# Altium schematic symbol library Device.SchLib: 533 symbols (part 2 of 4)
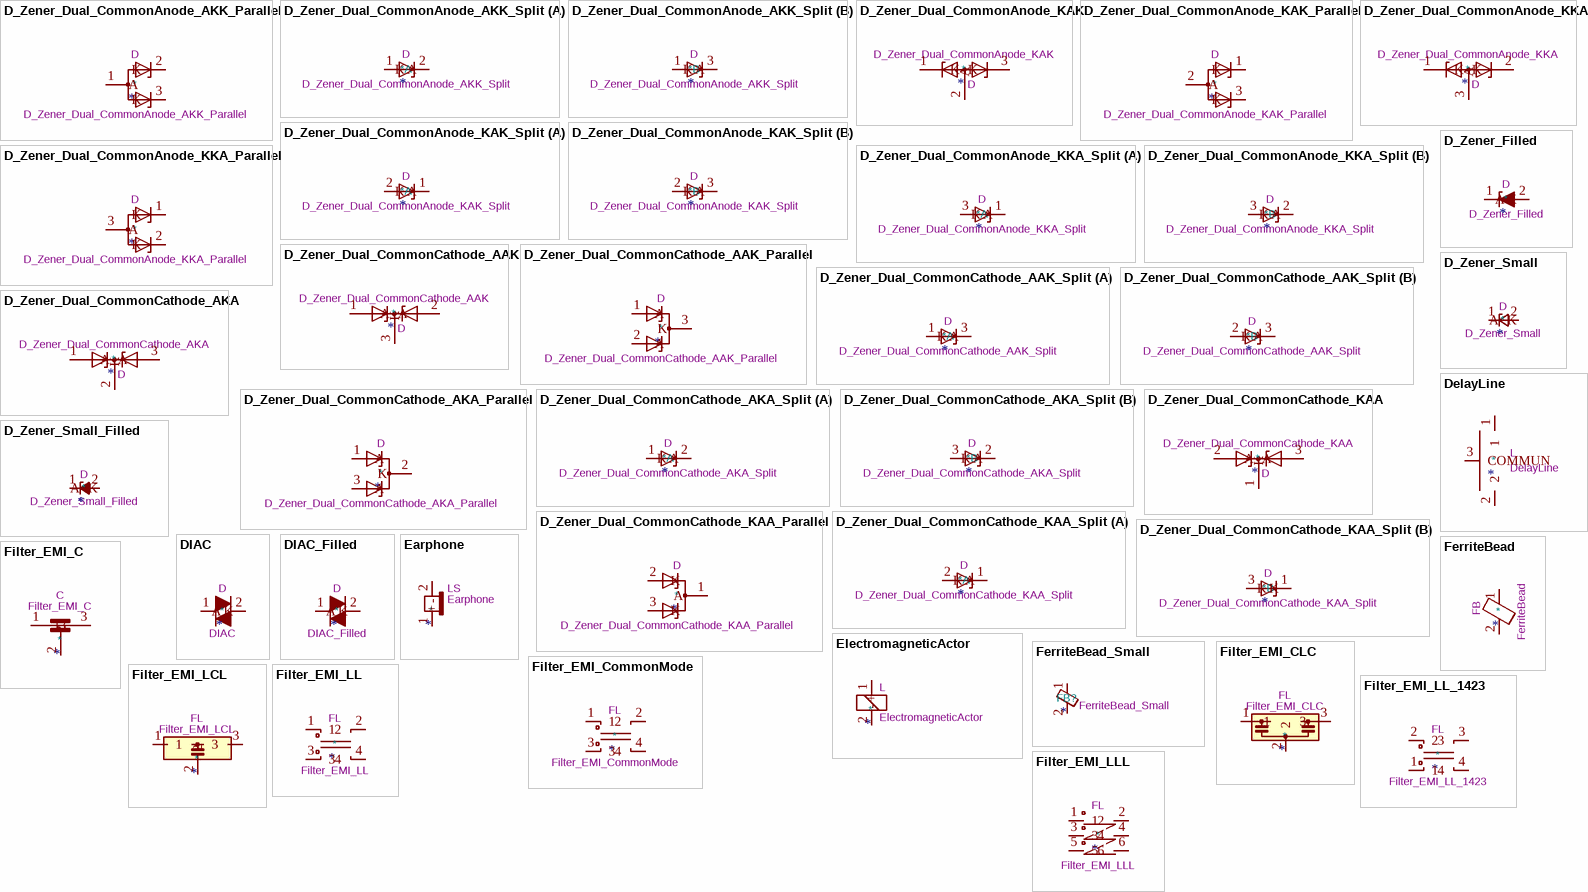
[diagram p19: symbols D_Zener_Dual_CommonAnode_AKK_Parallel to Filter_EMI_LLL]

## D_Zener_Dual_CommonCathode_KAA_Parallel
designator *  value D_Zener_Dual_CommonCathode_KAA_Parallel  Reference: D
Dual Zener diode, common anode on pin 1; Datasheet: ~; Description_: Dual Zener diode, common anode on pin 1; ki_keywords: diode
pins: 1 A, 2 K, 3 K

## D_Zener_Dual_CommonCathode_KAA_Split
designator *  value D_Zener_Dual_CommonCathode_KAA_Split  Reference: D
Dual Zener diode, common anode on pin 1; Datasheet: ~; Description_: Dual Zener diode, common anode on pin 1; ki_keywords: diode
part A pins: 1 K, 2 A
part B pins: 1 K, 3 K

## D_Zener_Filled
designator *  value D_Zener_Filled  Reference: D
Zener diode, filled shape; ki_fp_filters: TO-???* *_Diode_* *SingleDiode* D_*; Datasheet: ~; Description_: Zener diode, filled shape; ki_keywords: diode
pins: 1 K, 2 A

## D_Zener_Small
designator *  value D_Zener_Small  Reference: D
Zener diode, small symbol; ki_fp_filters: TO-???* *_Diode_* *SingleDiode* D_*; Datasheet: ~; Description_: Zener diode, small symbol; ki_keywords: diode
pins: 1 K, 2 A

## D_Zener_Small_Filled
designator *  value D_Zener_Small_Filled  Reference: D
Zener diode, small symbol, filled shape; ki_fp_filters: TO-???* *_Diode_* *SingleDiode* D_*; Datasheet: ~; Description_: Zener diode, small symbol, filled shape; ki_keywords: diode
pins: 1 K, 2 A

## DelayLine
designator *  value DelayLine  Reference: L
Delay line; ki_keywords: delay propagation retard impedance; Datasheet: ~; Description_: Delay line
pins: 1, 2, 3 COMMUN

## DIAC
designator *  value DIAC  Reference: D
Diode for alternating current; ki_keywords: AC diode DIAC; ki_fp_filters: TO-???* *_Diode_* *SingleDiode* D_*; Datasheet: ~; Description_: Diode for alternating current
pins: 1 K, 2 A

## DIAC_Filled
designator *  value DIAC_Filled  Reference: D
Diode for alternating current, filled shape; ki_keywords: AC diode DIAC; ki_fp_filters: TO-???* *_Diode_* *SingleDiode* D_*; Datasheet: ~; Description_: Diode for alternating current, filled shape
pins: 1 K, 2 A

## Earphone
designator *  value Earphone  Reference: LS
Earphone, polarized; ki_keywords: earphone speaker headphone; Datasheet: ~; Description_: Earphone, polarized
pins: 1 -, 2 +

## ElectromagneticActor
designator *  value ElectromagneticActor  Reference: L
Electromagnetic actor; ki_keywords: electromagnet coil inductor; ki_fp_filters: Inductor_* L_*; Datasheet: ~; Description_: Electromagnetic actor
pins: 1 -, 2 +

## FerriteBead
designator *  value FerriteBead  Reference: FB
Ferrite bead; ki_keywords: L ferrite bead inductor filter; ki_fp_filters: Inductor_* L_* *Ferrite*; Datasheet: ~; Description_: Ferrite bead
pins: 1, 2

## FerriteBead_Small
designator FB?  value FerriteBead_Small
Ferrite bead, small symbol; ki_keywords: L ferrite bead inductor filter; ki_fp_filters: Inductor_* L_* *Ferrite*; Reference: FB; Datasheet: ~; Description_: Ferrite bead, small symbol
footprint L_0201_0603Metric
footprint L_0402_1005Metric
footprint L_0603_1608Metric
footprint L_0805_2012Metric
pins: 1, 2

## Filter_EMI_C
designator *  value Filter_EMI_C  Reference: C
EMI filter, single capacitor; ki_keywords: EMI filter feedthrough capacitor; Datasheet: http://www.murata.com/~/media/webrenewal/support/library/catalog/products/emc/emifil/c31e.ashx?la=en-gb; Description_: EMI filter, single capacitor
pins: 1, 2, 3

## Filter_EMI_CLC
designator *  value Filter_EMI_CLC  Reference: FL
EMI T-filter (CLC); ki_fp_filters: Filter* Resonator*; Datasheet: http://www.murata.com/~/media/webrenewal/support/library/catalog/products/emc/emifil/c31e.ashx?la=en-gb; Description_: EMI T-filter (CLC); ki_keywords: EMI T-filter
pins: 1, 2, 3

## Filter_EMI_CommonMode
designator *  value Filter_EMI_CommonMode  Reference: FL
EMI 2-inductor common mode filter; ki_keywords: EMI common mode filter; ki_fp_filters: L_* L_CommonMode*; Datasheet: ~; Description_: EMI 2-inductor common mode filter
pins: 1, 2, 3, 4

## Filter_EMI_LCL
designator *  value Filter_EMI_LCL  Reference: FL
EMI T-filter (LCL); ki_fp_filters: Filter* Resonator*; Datasheet: http://www.murata.com/~/media/webrenewal/support/library/catalog/products/emc/emifil/c31e.ashx?la=en-gb; Description_: EMI T-filter (LCL); ki_keywords: EMI T-filter
pins: 1, 2, 3

## Filter_EMI_LL
designator *  value Filter_EMI_LL  Reference: FL
EMI 2-inductor filter; ki_keywords: EMI filter; ki_fp_filters: L_* L_CommonMode*; Datasheet: ~; Description_: EMI 2-inductor filter
pins: 1, 2, 3, 4

## Filter_EMI_LL_1423
designator *  value Filter_EMI_LL_1423  Reference: FL
EMI 2-inductor filter, pin-connections 1-4 and 2-3; ki_keywords: EMI filter common-mode choke; ki_fp_filters: Bourns*SRF0905*; Datasheet: ~; Description_: EMI 2-inductor filter, pin-connections 1-4 and 2-3
pins: 1, 2, 3, 4

## Filter_EMI_LLL
designator *  value Filter_EMI_LLL  Reference: FL
EMI 3-inductor filter; ki_keywords: three phase common mode choke; ki_fp_filters: L* L_CommonMode*; Datasheet: ~; Description_: EMI 3-inductor filter
pins: 1, 2, 3, 4, 5, 6

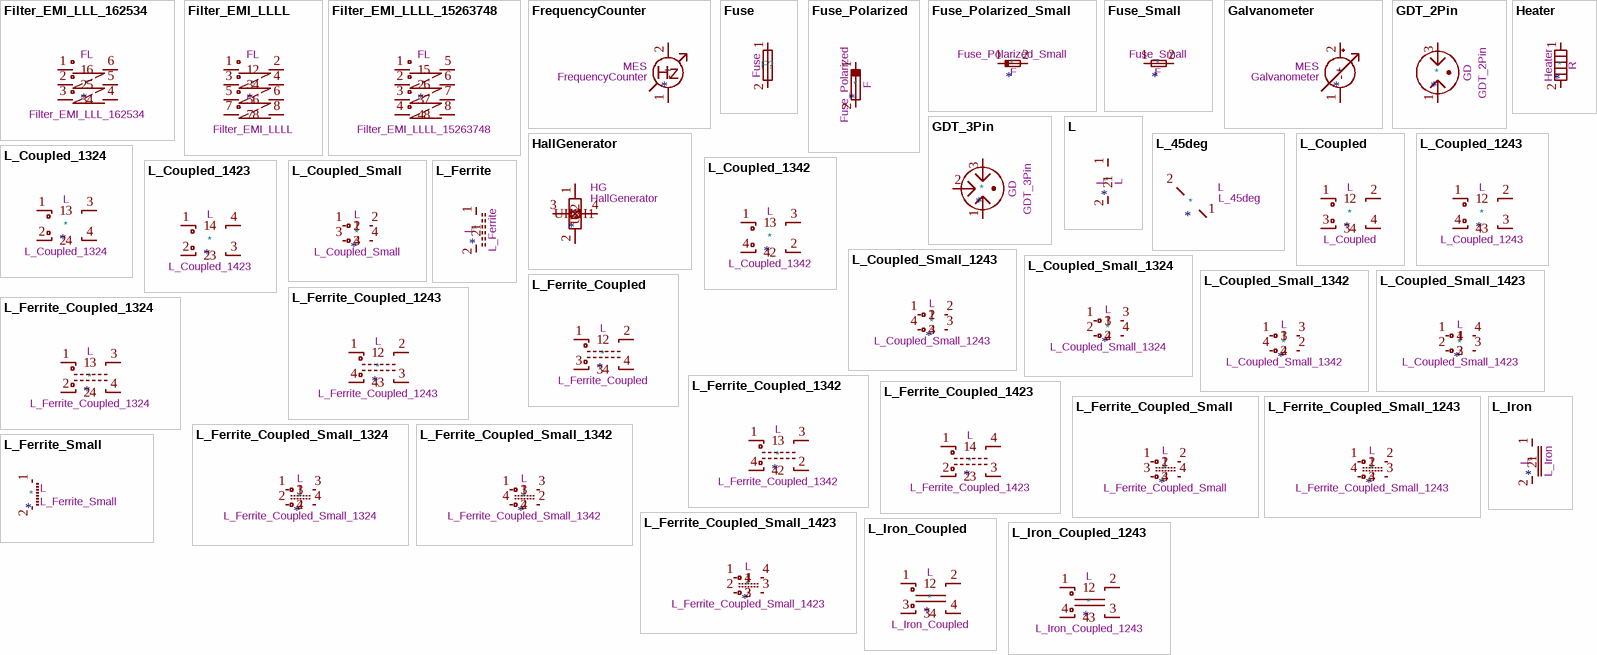
[diagram p6: symbols Filter_EMI_LLL_162534 to L_Iron_Coupled_1243]

## Filter_EMI_LLL_162534
designator *  value Filter_EMI_LLL_162534  Reference: FL
EMI 3-inductor filter; ki_keywords: three phase common mode choke; ki_fp_filters: L* L_CommonMode*; Datasheet: ~; Description_: EMI 3-inductor filter
pins: 1, 2, 3, 4, 5, 6

## Filter_EMI_LLLL
designator *  value Filter_EMI_LLLL  Reference: FL
EMI 4-inductor filter; ki_keywords: common mode quadruple choke quad coil; ki_fp_filters: L* L_CommonMode*; Datasheet: ~; Description_: EMI 4-inductor filter
pins: 1, 2, 3, 4, 5, 6, 7, 8

## Filter_EMI_LLLL_15263748
designator *  value Filter_EMI_LLLL_15263748  Reference: FL
EMI 4-inductor filter; ki_keywords: common mode quadruple choke quad coil; ki_fp_filters: L* L_CommonMode*; Datasheet: ~; Description_: EMI 4-inductor filter
pins: 1, 2, 3, 4, 5, 6, 7, 8

## FrequencyCounter
designator *  value FrequencyCounter  Reference: MES
Frequency counter; Datasheet: ~; Description_: Frequency counter; ki_keywords: frequency counter
pins: 1 -, 2 +
text: Hz

## Fuse
designator F?  value Fuse  (hidden comment: *)
Fuse; ki_fp_filters: *Fuse*; Reference: F; Datasheet: ~; Description_: Fuse; ki_keywords: fuse
footprint Fuse_2512_6332Metric
pins: 1, 2

## Fuse_Polarized
designator *  value Fuse_Polarized  Reference: F
Polarized fuse; ki_fp_filters: *Fuse*; Datasheet: ~; Description_: Polarized fuse; ki_keywords: fuse
pins: 1, 2

## Fuse_Polarized_Small
designator *  value Fuse_Polarized_Small  Reference: F
Polarized fuse, small symbol; ki_fp_filters: *Fuse*; Datasheet: ~; Description_: Polarized fuse, small symbol; ki_keywords: fuse
pins: 1, 2

## Fuse_Small
designator *  value Fuse_Small  Reference: F
Fuse, small symbol; ki_fp_filters: *Fuse*; Datasheet: ~; Description_: Fuse, small symbol; ki_keywords: fuse
pins: 1, 2

## Galvanometer
designator *  value Galvanometer  Reference: MES
Galvanometer; Datasheet: ~; Description_: Galvanometer; ki_keywords: galvanometer
pins: 1 -, 2 +

## GDT_2Pin
designator *  value GDT_2Pin  Reference: GD
Gas Discharge Tube with 2 Pins; ki_keywords: gdt; Datasheet: ~; Description_: Gas Discharge Tube with 2 Pins
pins: 1, 3

## GDT_3Pin
designator *  value GDT_3Pin  Reference: GD
Gas Discharge Tube with 3 Pins; ki_keywords: gdt; Datasheet: ~; Description_: Gas Discharge Tube with 3 Pins
pins: 1, 2, 3

## HallGenerator
designator *  value HallGenerator  Reference: HG
Hall effect generator; ki_keywords: Hall generator magnet; Datasheet: ~; Description_: Hall effect generator
pins: 1 U1, 2 U2, 3 UH1, 4 UH2

## Heater
designator *  value Heater  Reference: R
Resistive heater; ki_keywords: heater R resistor; Datasheet: ~; Description_: Resistive heater
pins: 1, 2

## L
designator *  value L
Inductor; ki_keywords: inductor choke coil reactor magnetic; ki_fp_filters: Choke_* *Coil* Inductor_* L_*; Reference: L; Datasheet: ~; Description_: Inductor
pins: 1, 2

## L_45deg
designator *  value L_45deg  Reference: L
Inductor, rotated by 45°; ki_keywords: inductor choke coil reactor magnetic inductor; ki_fp_filters: L_* Choke_* Inductor_* *Coil*; Datasheet: ~; Description_: Inductor, rotated by 45°
pins: 1, 2

## L_Coupled
designator *  value L_Coupled  Reference: L
Coupled inductor; ki_keywords: inductor choke coil reactor magnetic coupled; ki_fp_filters: Choke_* *Coil* Inductor_* L_*; Datasheet: ~; Description_: Coupled inductor
pins: 1, 2, 3, 4

## L_Coupled_1243
designator *  value L_Coupled_1243  Reference: L
Coupled inductor; ki_keywords: inductor choke coil reactor magnetic coupled; ki_fp_filters: Choke_* *Coil* Inductor_* L_*; Datasheet: ~; Description_: Coupled inductor
pins: 1, 2, 3, 4

## L_Coupled_1324
designator *  value L_Coupled_1324  Reference: L
Coupled inductor; ki_keywords: inductor choke coil reactor magnetic coupled; ki_fp_filters: Choke_* *Coil* Inductor_* L_*; Datasheet: ~; Description_: Coupled inductor
pins: 1, 2, 3, 4

## L_Coupled_1342
designator *  value L_Coupled_1342  Reference: L
Coupled inductor; ki_keywords: inductor choke coil reactor magnetic coupled; ki_fp_filters: Choke_* *Coil* Inductor_* L_*; Datasheet: ~; Description_: Coupled inductor
pins: 1, 2, 3, 4

## L_Coupled_1423
designator *  value L_Coupled_1423  Reference: L
Coupled inductor; ki_keywords: inductor choke coil reactor magnetic coupled; ki_fp_filters: Choke_* *Coil* Inductor_* L_*; Datasheet: ~; Description_: Coupled inductor
pins: 1, 2, 3, 4

## L_Coupled_Small
designator *  value L_Coupled_Small  Reference: L
Coupled inductor, small symbol; ki_keywords: inductor choke coil reactor magnetic coupled; ki_fp_filters: Choke_* *Coil* Inductor_* L_*; Datasheet: ~; Description_: Coupled inductor, small symbol
pins: 1, 2, 3, 4

## L_Coupled_Small_1243
designator *  value L_Coupled_Small_1243  Reference: L
Coupled inductor, small symbol; ki_keywords: inductor choke coil reactor magnetic coupled; ki_fp_filters: Choke_* *Coil* Inductor_* L_*; Datasheet: ~; Description_: Coupled inductor, small symbol
pins: 1, 2, 3, 4

## L_Coupled_Small_1324
designator *  value L_Coupled_Small_1324  Reference: L
Coupled inductor, small symbol; ki_keywords: inductor choke coil reactor magnetic coupled; ki_fp_filters: Choke_* *Coil* Inductor_* L_*; Datasheet: ~; Description_: Coupled inductor, small symbol
pins: 1, 2, 3, 4

## L_Coupled_Small_1342
designator *  value L_Coupled_Small_1342  Reference: L
Coupled inductor, small symbol; ki_keywords: inductor choke coil reactor magnetic coupled; ki_fp_filters: Choke_* *Coil* Inductor_* L_*; Datasheet: ~; Description_: Coupled inductor, small symbol
pins: 1, 2, 3, 4

## L_Coupled_Small_1423
designator *  value L_Coupled_Small_1423  Reference: L
Coupled inductor, small symbol; ki_keywords: inductor choke coil reactor magnetic coupled; ki_fp_filters: Choke_* *Coil* Inductor_* L_*; Datasheet: ~; Description_: Coupled inductor, small symbol
pins: 1, 2, 3, 4

## L_Ferrite
designator *  value L_Ferrite  Reference: L
Inductor with ferrite core; ki_keywords: inductor choke coil reactor magnetic; ki_fp_filters: Choke_* *Coil* Inductor_* L_*; Datasheet: ~; Description_: Inductor with ferrite core
pins: 1, 2

## L_Ferrite_Coupled
designator *  value L_Ferrite_Coupled  Reference: L
Coupled inductor with ferrite core; ki_keywords: inductor choke coil reactor magnetic coupled; ki_fp_filters: Choke_* *Coil* Inductor_* L_*; Datasheet: ~; Description_: Coupled inductor with ferrite core
pins: 1, 2, 3, 4

## L_Ferrite_Coupled_1243
designator *  value L_Ferrite_Coupled_1243  Reference: L
Coupled inductor with ferrite core; ki_keywords: inductor choke coil reactor magnetic coupled; ki_fp_filters: Choke_* *Coil* Inductor_* L_*; Datasheet: ~; Description_: Coupled inductor with ferrite core
pins: 1, 2, 3, 4

## L_Ferrite_Coupled_1324
designator *  value L_Ferrite_Coupled_1324  Reference: L
Coupled inductor with ferrite core; ki_keywords: inductor choke coil reactor magnetic coupled; ki_fp_filters: Choke_* *Coil* Inductor_* L_*; Datasheet: ~; Description_: Coupled inductor with ferrite core
pins: 1, 2, 3, 4

## L_Ferrite_Coupled_1342
designator *  value L_Ferrite_Coupled_1342  Reference: L
Coupled inductor with ferrite core; ki_keywords: inductor choke coil reactor magnetic coupled; ki_fp_filters: Choke_* *Coil* Inductor_* L_*; Datasheet: ~; Description_: Coupled inductor with ferrite core
pins: 1, 2, 3, 4

## L_Ferrite_Coupled_1423
designator *  value L_Ferrite_Coupled_1423  Reference: L
Coupled inductor with ferrite core; ki_keywords: inductor choke coil reactor magnetic coupled; ki_fp_filters: Choke_* *Coil* Inductor_* L_*; Datasheet: ~; Description_: Coupled inductor with ferrite core
pins: 1, 2, 3, 4

## L_Ferrite_Coupled_Small
designator *  value L_Ferrite_Coupled_Small  Reference: L
Coupled inductor with ferrite core, small symbol; ki_keywords: inductor choke coil reactor magnetic coupled; ki_fp_filters: Choke_* *Coil* Inductor_* L_*; Datasheet: ~; Description_: Coupled inductor with ferrite core, small symbol
pins: 1, 2, 3, 4

## L_Ferrite_Coupled_Small_1243
designator *  value L_Ferrite_Coupled_Small_1243  Reference: L
Coupled inductor with ferrite core, small symbol; ki_keywords: inductor choke coil reactor magnetic coupled; ki_fp_filters: Choke_* *Coil* Inductor_* L_*; Datasheet: ~; Description_: Coupled inductor with ferrite core, small symbol
pins: 1, 2, 3, 4

## L_Ferrite_Coupled_Small_1324
designator *  value L_Ferrite_Coupled_Small_1324  Reference: L
Coupled inductor with ferrite core, small symbol; ki_keywords: inductor choke coil reactor magnetic coupled; ki_fp_filters: Choke_* *Coil* Inductor_* L_*; Datasheet: ~; Description_: Coupled inductor with ferrite core, small symbol
pins: 1, 2, 3, 4

## L_Ferrite_Coupled_Small_1342
designator *  value L_Ferrite_Coupled_Small_1342  Reference: L
Coupled inductor with ferrite core, small symbol; ki_keywords: inductor choke coil reactor magnetic coupled; ki_fp_filters: Choke_* *Coil* Inductor_* L_*; Datasheet: ~; Description_: Coupled inductor with ferrite core, small symbol
pins: 1, 2, 3, 4

## L_Ferrite_Coupled_Small_1423
designator *  value L_Ferrite_Coupled_Small_1423  Reference: L
Coupled inductor with ferrite core, small symbol; ki_keywords: inductor choke coil reactor magnetic coupled; ki_fp_filters: Choke_* *Coil* Inductor_* L_*; Datasheet: ~; Description_: Coupled inductor with ferrite core, small symbol
pins: 1, 2, 3, 4

## L_Ferrite_Small
designator *  value L_Ferrite_Small  Reference: L
Inductor with ferrite core, small symbol; ki_keywords: inductor choke coil reactor magnetic; ki_fp_filters: Choke_* *Coil* Inductor_* L_*; Datasheet: ~; Description_: Inductor with ferrite core, small symbol
pins: 1, 2

## L_Iron
designator *  value L_Iron  Reference: L
Inductor with iron core; ki_keywords: inductor choke coil reactor magnetic; ki_fp_filters: Choke_* *Coil* Inductor_* L_*; Datasheet: ~; Description_: Inductor with iron core
pins: 1, 2

## L_Iron_Coupled
designator *  value L_Iron_Coupled  Reference: L
Coupled inductor with iron core; ki_keywords: inductor choke coil reactor magnetic coupled; ki_fp_filters: Choke_* *Coil* Inductor_* L_*; Datasheet: ~; Description_: Coupled inductor with iron core
pins: 1, 2, 3, 4

## L_Iron_Coupled_1243
designator *  value L_Iron_Coupled_1243  Reference: L
Coupled inductor with iron core; ki_keywords: inductor choke coil reactor magnetic coupled; ki_fp_filters: Choke_* *Coil* Inductor_* L_*; Datasheet: ~; Description_: Coupled inductor with iron core
pins: 1, 2, 3, 4

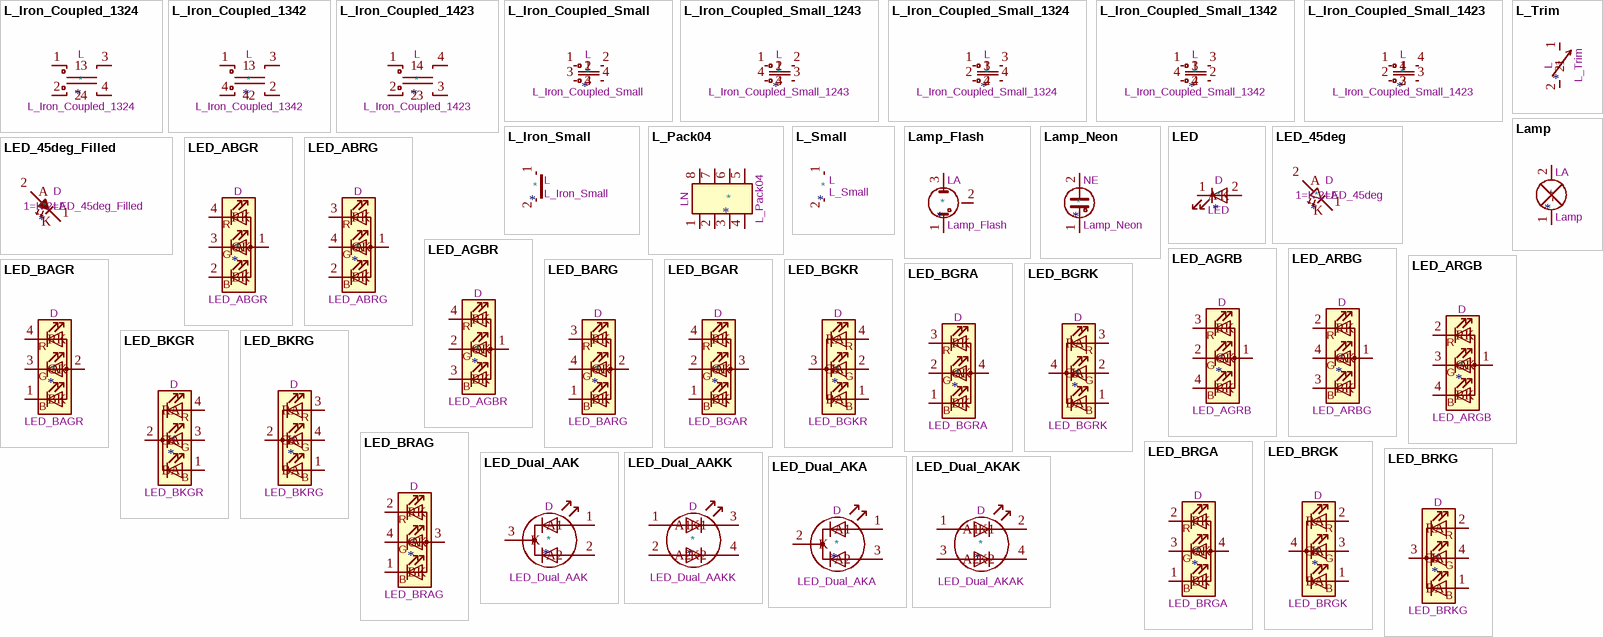
[diagram p7: symbols L_Iron_Coupled_1324 to LED_Dual_AKAK]

## L_Iron_Coupled_1324
designator *  value L_Iron_Coupled_1324  Reference: L
Coupled inductor with iron core; ki_keywords: inductor choke coil reactor magnetic coupled; ki_fp_filters: Choke_* *Coil* Inductor_* L_*; Datasheet: ~; Description_: Coupled inductor with iron core
pins: 1, 2, 3, 4

## L_Iron_Coupled_1342
designator *  value L_Iron_Coupled_1342  Reference: L
Coupled inductor with iron core; ki_keywords: inductor choke coil reactor magnetic coupled; ki_fp_filters: Choke_* *Coil* Inductor_* L_*; Datasheet: ~; Description_: Coupled inductor with iron core
pins: 1, 2, 3, 4

## L_Iron_Coupled_1423
designator *  value L_Iron_Coupled_1423  Reference: L
Coupled inductor with iron core; ki_keywords: inductor choke coil reactor magnetic coupled; ki_fp_filters: Choke_* *Coil* Inductor_* L_*; Datasheet: ~; Description_: Coupled inductor with iron core
pins: 1, 2, 3, 4

## L_Iron_Coupled_Small
designator *  value L_Iron_Coupled_Small  Reference: L
Coupled inductor with iron core, small symbol; ki_keywords: inductor choke coil reactor magnetic coupled; ki_fp_filters: Choke_* *Coil* Inductor_* L_*; Datasheet: ~; Description_: Coupled inductor with iron core, small symbol
pins: 1, 2, 3, 4

## L_Iron_Coupled_Small_1243
designator *  value L_Iron_Coupled_Small_1243  Reference: L
Coupled inductor with iron core, small symbol; ki_keywords: inductor choke coil reactor magnetic coupled; ki_fp_filters: Choke_* *Coil* Inductor_* L_*; Datasheet: ~; Description_: Coupled inductor with iron core, small symbol
pins: 1, 2, 3, 4

## L_Iron_Coupled_Small_1324
designator *  value L_Iron_Coupled_Small_1324  Reference: L
Coupled inductor with iron core, small symbol; ki_keywords: inductor choke coil reactor magnetic coupled; ki_fp_filters: Choke_* *Coil* Inductor_* L_*; Datasheet: ~; Description_: Coupled inductor with iron core, small symbol
pins: 1, 2, 3, 4

## L_Iron_Coupled_Small_1342
designator *  value L_Iron_Coupled_Small_1342  Reference: L
Coupled inductor with iron core, small symbol; ki_keywords: inductor choke coil reactor magnetic coupled; ki_fp_filters: Choke_* *Coil* Inductor_* L_*; Datasheet: ~; Description_: Coupled inductor with iron core, small symbol
pins: 1, 2, 3, 4

## L_Iron_Coupled_Small_1423
designator *  value L_Iron_Coupled_Small_1423  Reference: L
Coupled inductor with iron core, small symbol; ki_keywords: inductor choke coil reactor magnetic coupled; ki_fp_filters: Choke_* *Coil* Inductor_* L_*; Datasheet: ~; Description_: Coupled inductor with iron core, small symbol
pins: 1, 2, 3, 4

## L_Iron_Small
designator *  value L_Iron_Small  Reference: L
Inductor with iron core, small symbol; ki_keywords: inductor choke coil reactor magnetic; ki_fp_filters: Choke_* *Coil* Inductor_* L_*; Datasheet: ~; Description_: Inductor with iron core, small symbol
pins: 1, 2

## L_Pack04
designator *  value L_Pack04  Reference: LN
4 inductor network, parallel topology; ki_keywords: L network parallel topology; Datasheet: ~; Description_: 4 inductor network, parallel topology
pins: 1, 2, 3, 4, 5, 6, 7, 8

## L_Small
designator *  value L_Small  Reference: L
Inductor, small symbol; ki_keywords: inductor choke coil reactor magnetic; ki_fp_filters: Choke_* *Coil* Inductor_* L_*; Datasheet: ~; Description_: Inductor, small symbol
pins: 1, 2

## L_Trim
designator *  value L_Trim  Reference: L
Variable inductor; ki_keywords: inductor choke coil reactor magnetic; ki_fp_filters: Inductor_* L_*; Datasheet: ~; Description_: Variable inductor
pins: 1, 2

## Lamp
designator *  value Lamp  Reference: LA
Lamp; Datasheet: ~; Description_: Lamp; ki_keywords: lamp
pins: 1 -, 2 +

## Lamp_Flash
designator *  value Lamp_Flash  Reference: LA
Flash lamp tube; Datasheet: ~; Description_: Flash lamp tube; ki_keywords: flash lamp
pins: 1, 2, 3

## Lamp_Neon
designator *  value Lamp_Neon  Reference: NE
Neon lamp; Datasheet: ~; Description_: Neon lamp; ki_keywords: neon lamp
pins: 1, 2

## LED
designator *  value LED  Reference: D
Light emitting diode; Sim.Pins: 1=K 2=A; ki_keywords: LED diode; ki_fp_filters: LED* LED_SMD:* LED_THT:*; Datasheet: ~; Description_: Light emitting diode
pins: 1 K, 2 A

## LED_45deg
designator *  value LED_45deg  Reference: D  Sim.Pins: 1=K 2=A
Light emitting diode, rotated by 45°; ki_keywords: LED diode; ki_fp_filters: LED* LED_SMD:* LED_THT:*; Datasheet: ~; Description_: Light emitting diode, rotated by 45°
pins: 1 K, 2 A

## LED_45deg_Filled
designator *  value LED_45deg_Filled  Reference: D  Sim.Pins: 1=K 2=A
Light emitting diode, rotated by 45°; ki_keywords: LED diode; ki_fp_filters: LED* LED_SMD:* LED_THT:*; Datasheet: ~; Description_: Light emitting diode, rotated by 45°
pins: 1 K, 2 A

## LED_ABGR
designator *  value LED_ABGR  Reference: D
RGB LED, anode/blue/green/red; ki_keywords: LED RGB diode; ki_fp_filters: LED* LED_SMD:* LED_THT:*; Datasheet: ~; Description_: RGB LED, anode/blue/green/red
pins: 1 A, 2 BK, 3 GK, 4 RK
text: R; G; B

## LED_ABRG
designator *  value LED_ABRG  Reference: D
RGB LED, anode/blue/red/green; ki_keywords: LED RGB diode; ki_fp_filters: LED* LED_SMD:* LED_THT:*; Datasheet: ~; Description_: RGB LED, anode/blue/red/green
pins: 1 A, 2 BK, 3 RK, 4 GK
text: R; G; B

## LED_AGBR
designator *  value LED_AGBR  Reference: D
RGB LED, anode/green/blue/red; ki_keywords: LED RGB diode; ki_fp_filters: LED* LED_SMD:* LED_THT:*; Datasheet: ~; Description_: RGB LED, anode/green/blue/red
pins: 1 A, 2 GK, 3 BK, 4 RK
text: R; G; B

## LED_AGRB
designator *  value LED_AGRB  Reference: D
RGB LED, anode/green/red/blue; ki_keywords: LED RGB diode; ki_fp_filters: LED* LED_SMD:* LED_THT:*; Datasheet: ~; Description_: RGB LED, anode/green/red/blue
pins: 1 A, 2 GK, 3 RK, 4 BK
text: R; G; B

## LED_ARBG
designator *  value LED_ARBG  Reference: D
RGB LED, anode/red/blue/green; ki_keywords: LED RGB diode; ki_fp_filters: LED* LED_SMD:* LED_THT:*; Datasheet: ~; Description_: RGB LED, anode/red/blue/green
pins: 1 A, 2 RK, 3 BK, 4 GK
text: R; G; B

## LED_ARGB
designator *  value LED_ARGB  Reference: D
RGB LED, anode/red/green/blue; ki_keywords: LED RGB diode; ki_fp_filters: LED* LED_SMD:* LED_THT:*; Datasheet: ~; Description_: RGB LED, anode/red/green/blue
pins: 1 A, 2 RK, 3 GK, 4 BK
text: R; G; B

## LED_BAGR
designator *  value LED_BAGR  Reference: D
RGB LED, blue/anode/green/red; ki_keywords: LED RGB diode; ki_fp_filters: LED* LED_SMD:* LED_THT:*; Datasheet: ~; Description_: RGB LED, blue/anode/green/red
pins: 1 BK, 2 A, 3 GK, 4 RK
text: R; G; B

## LED_BARG
designator *  value LED_BARG  Reference: D
RGB LED, blue/anode/red/green; ki_keywords: LED RGB diode; ki_fp_filters: LED* LED_SMD:* LED_THT:*; Datasheet: ~; Description_: RGB LED, blue/anode/red/green
pins: 1 BK, 2 A, 3 RK, 4 GK
text: R; G; B

## LED_BGAR
designator *  value LED_BGAR  Reference: D
RGB LED, blue/green/anode/red; ki_keywords: LED RGB diode; ki_fp_filters: LED* LED_SMD:* LED_THT:*; Datasheet: ~; Description_: RGB LED, blue/green/anode/red
pins: 1 BK, 2 GK, 3 A, 4 RK
text: R; G; B

## LED_BGKR
designator *  value LED_BGKR  Reference: D
RGB LED, blue/green/cathode/red; ki_keywords: LED RGB diode; ki_fp_filters: LED* LED_SMD:* LED_THT:*; Datasheet: ~; Description_: RGB LED, blue/green/cathode/red
pins: 1 BA, 2 GA, 3 K, 4 RA
text: R; G; B

## LED_BGRA
designator *  value LED_BGRA  Reference: D
RGB LED, blue/green/red/anode; ki_keywords: LED RGB diode; ki_fp_filters: LED* LED_SMD:* LED_THT:*; Datasheet: ~; Description_: RGB LED, blue/green/red/anode
pins: 1 BK, 2 GK, 3 RK, 4 A
text: R; G; B

## LED_BGRK
designator *  value LED_BGRK  Reference: D
RGB LED, blue/green/red/cathode; ki_keywords: LED RGB diode; ki_fp_filters: LED* LED_SMD:* LED_THT:*; Datasheet: ~; Description_: RGB LED, blue/green/red/cathode
pins: 1 BA, 2 GA, 3 RA, 4 K
text: R; G; B

## LED_BKGR
designator *  value LED_BKGR  Reference: D
RGB LED, blue/cathode/green/red; ki_keywords: LED RGB diode; ki_fp_filters: LED* LED_SMD:* LED_THT:*; Datasheet: ~; Description_: RGB LED, blue/cathode/green/red
pins: 1 BA, 2 K, 3 GA, 4 RA
text: R; G; B

## LED_BKRG
designator *  value LED_BKRG  Reference: D
RGB LED, blue/cathode/red/green; ki_keywords: LED RGB diode; ki_fp_filters: LED* LED_SMD:* LED_THT:*; Datasheet: ~; Description_: RGB LED, blue/cathode/red/green
pins: 1 BA, 2 K, 3 RA, 4 GA
text: R; G; B

## LED_BRAG
designator *  value LED_BRAG  Reference: D
RGB LED, blue/red/anode/green; ki_keywords: LED RGB diode; ki_fp_filters: LED* LED_SMD:* LED_THT:*; Datasheet: ~; Description_: RGB LED, blue/red/anode/green
pins: 1 BK, 2 RK, 3 A, 4 GK
text: R; G; B

## LED_BRGA
designator *  value LED_BRGA  Reference: D
RGB LED, blue/red/green/anode; ki_keywords: LED RGB diode; ki_fp_filters: LED* LED_SMD:* LED_THT:*; Datasheet: ~; Description_: RGB LED, blue/red/green/anode
pins: 1 BK, 2 RK, 3 GK, 4 A
text: R; G; B

## LED_BRGK
designator *  value LED_BRGK  Reference: D
RGB LED, blue/red/green/cathode; ki_keywords: LED RGB diode; ki_fp_filters: LED* LED_SMD:* LED_THT:*; Datasheet: ~; Description_: RGB LED, blue/red/green/cathode
pins: 1 BA, 2 RA, 3 GA, 4 K
text: R; G; B

## LED_BRKG
designator *  value LED_BRKG  Reference: D
RGB LED, blue/red/cathode/green; ki_keywords: LED RGB diode; ki_fp_filters: LED* LED_SMD:* LED_THT:*; Datasheet: ~; Description_: RGB LED, blue/red/cathode/green
pins: 1 BA, 2 RA, 3 K, 4 GA
text: R; G; B

## LED_Dual_AAK
designator *  value LED_Dual_AAK  Reference: D
Dual LED, common cathode on pin 3; ki_keywords: LED diode bicolor dual; ki_fp_filters: LED* LED_SMD:* LED_THT:*; Datasheet: ~; Description_: Dual LED, common cathode on pin 3
pins: 1 A1, 2 A2, 3 K

## LED_Dual_AAKK
designator *  value LED_Dual_AAKK  Reference: D
Dual LED, cathodes on pins 3 and 4; ki_keywords: LED diode bicolor dual; ki_fp_filters: LED* LED_SMD:* LED_THT:*; Datasheet: ~; Description_: Dual LED, cathodes on pins 3 and 4
pins: 1 A1, 2 A2, 3 K1, 4 K2

## LED_Dual_AKA
designator *  value LED_Dual_AKA  Reference: D
Dual LED, common cathode on pin 2; ki_keywords: LED diode bicolor dual; ki_fp_filters: LED* LED_SMD:* LED_THT:*; Datasheet: ~; Description_: Dual LED, common cathode on pin 2
pins: 1 A1, 2 K, 3 A2

## LED_Dual_AKAK
designator *  value LED_Dual_AKAK  Reference: D
Dual LED, cathodes on pins 2 and 4; ki_keywords: LED diode bicolor dual; ki_fp_filters: LED* LED_SMD:* LED_THT:*; Datasheet: ~; Description_: Dual LED, cathodes on pins 2 and 4
pins: 1 A1, 2 K1, 3 A2, 4 K2

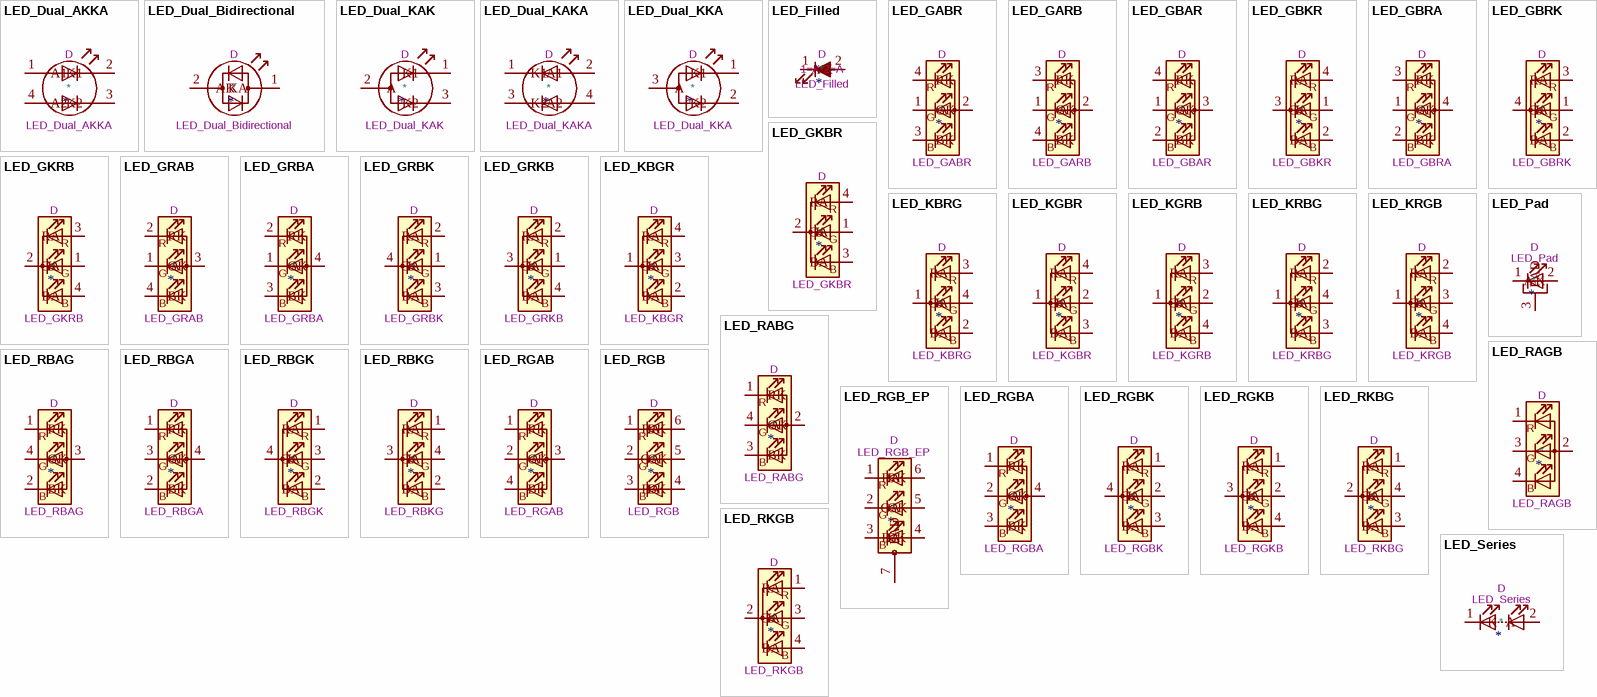
[diagram p8: symbols LED_Dual_AKKA to LED_Series]

## LED_Dual_AKKA
designator *  value LED_Dual_AKKA  Reference: D
Dual LED, cathodes on pins 2 and 3; ki_keywords: LED diode bicolor dual; ki_fp_filters: LED* LED_SMD:* LED_THT:*; Datasheet: ~; Description_: Dual LED, cathodes on pins 2 and 3
pins: 1 A1, 2 K1, 3 K2, 4 A2

## LED_Dual_Bidirectional
designator *  value LED_Dual_Bidirectional  Reference: D
Dual LED, bidirectional; ki_keywords: LED diode bicolor dual; ki_fp_filters: LED* LED_SMD:* LED_THT:*; Datasheet: ~; Description_: Dual LED, bidirectional
pins: 1 KA, 2 AK

## LED_Dual_KAK
designator *  value LED_Dual_KAK  Reference: D
Dual LED, common anode on pin 2; ki_keywords: LED diode bicolor dual; ki_fp_filters: LED* LED_SMD:* LED_THT:*; Datasheet: ~; Description_: Dual LED, common anode on pin 2
pins: 1 K1, 2 A, 3 K2

## LED_Dual_KAKA
designator *  value LED_Dual_KAKA  Reference: D
Dual LED, cathodes on pins 1 and 3; ki_keywords: LED diode bicolor dual; ki_fp_filters: LED* LED_SMD:* LED_THT:*; Datasheet: ~; Description_: Dual LED, cathodes on pins 1 and 3
pins: 1 K1, 2 A1, 3 K2, 4 A2

## LED_Dual_KKA
designator *  value LED_Dual_KKA  Reference: D
Dual LED, common anode on pin 3; ki_keywords: LED diode bicolor dual; ki_fp_filters: LED* LED_SMD:* LED_THT:*; Datasheet: ~; Description_: Dual LED, common anode on pin 3
pins: 1 K1, 2 K2, 3 A

## LED_Filled
designator *  value LED_Filled  Reference: D  Sim.Pins: 1=K 2=A
Light emitting diode, filled shape; ki_keywords: LED diode; ki_fp_filters: LED* LED_SMD:* LED_THT:*; Datasheet: ~; Description_: Light emitting diode, filled shape
pins: 1 K, 2 A

## LED_GABR
designator *  value LED_GABR  Reference: D
RGB LED, green/anode/blue/red; ki_keywords: LED RGB diode; ki_fp_filters: LED* LED_SMD:* LED_THT:*; Datasheet: ~; Description_: RGB LED, green/anode/blue/red
pins: 1 GK, 2 A, 3 BK, 4 RK
text: R; G; B

## LED_GARB
designator *  value LED_GARB  Reference: D
RGB LED, green/anode/red/blue; ki_keywords: LED RGB diode; ki_fp_filters: LED* LED_SMD:* LED_THT:*; Datasheet: ~; Description_: RGB LED, green/anode/red/blue
pins: 1 GK, 2 A, 3 RK, 4 BK
text: R; G; B

## LED_GBAR
designator *  value LED_GBAR  Reference: D
RGB LED, green/blue/anode/red; ki_keywords: LED RGB diode; ki_fp_filters: LED* LED_SMD:* LED_THT:*; Datasheet: ~; Description_: RGB LED, green/blue/anode/red
pins: 1 GK, 2 BK, 3 A, 4 RK
text: R; G; B

## LED_GBKR
designator *  value LED_GBKR  Reference: D
RGB LED, green/blue/cathode/red; ki_keywords: LED RGB diode; ki_fp_filters: LED* LED_SMD:* LED_THT:*; Datasheet: ~; Description_: RGB LED, green/blue/cathode/red
pins: 1 GA, 2 BA, 3 K, 4 RA
text: R; G; B

## LED_GBRA
designator *  value LED_GBRA  Reference: D
RGB LED, green/blue/red/anode; ki_keywords: LED RGB diode; ki_fp_filters: LED* LED_SMD:* LED_THT:*; Datasheet: ~; Description_: RGB LED, green/blue/red/anode
pins: 1 GK, 2 BK, 3 RK, 4 A
text: R; G; B

## LED_GBRK
designator *  value LED_GBRK  Reference: D
RGB LED, green/blue/red/cathode; ki_keywords: LED RGB diode; ki_fp_filters: LED* LED_SMD:* LED_THT:*; Datasheet: ~; Description_: RGB LED, green/blue/red/cathode
pins: 1 GA, 2 BA, 3 RA, 4 K
text: R; G; B

## LED_GKBR
designator *  value LED_GKBR  Reference: D
RGB LED, green/cathode/blue/red; ki_keywords: LED RGB diode; ki_fp_filters: LED* LED_SMD:* LED_THT:*; Datasheet: ~; Description_: RGB LED, green/cathode/blue/red
pins: 1 GA, 2 K, 3 BA, 4 RA
text: R; G; B

## LED_GKRB
designator *  value LED_GKRB  Reference: D
RGB LED, green/cathode/red/blue; ki_keywords: LED RGB diode; ki_fp_filters: LED* LED_SMD:* LED_THT:*; Datasheet: ~; Description_: RGB LED, green/cathode/red/blue
pins: 1 GA, 2 K, 3 RA, 4 BA
text: R; G; B

## LED_GRAB
designator *  value LED_GRAB  Reference: D
RGB LED, green/red/anode/blue; ki_keywords: LED RGB diode; ki_fp_filters: LED* LED_SMD:* LED_THT:*; Datasheet: ~; Description_: RGB LED, green/red/anode/blue
pins: 1 GK, 2 RK, 3 A, 4 BK
text: R; G; B

## LED_GRBA
designator *  value LED_GRBA  Reference: D
RGB LED, green/red/blue/anode; ki_keywords: LED RGB diode; ki_fp_filters: LED* LED_SMD:* LED_THT:*; Datasheet: ~; Description_: RGB LED, green/red/blue/anode
pins: 1 GK, 2 RK, 3 BK, 4 A
text: R; G; B

## LED_GRBK
designator *  value LED_GRBK  Reference: D
RGB LED, green/red/blue/cathode; ki_keywords: LED RGB diode; ki_fp_filters: LED* LED_SMD:* LED_THT:*; Datasheet: ~; Description_: RGB LED, green/red/blue/cathode
pins: 1 GA, 2 RA, 3 BA, 4 K
text: R; G; B

## LED_GRKB
designator *  value LED_GRKB  Reference: D
RGB LED, green/red/cathode/blue; ki_keywords: LED RGB diode; ki_fp_filters: LED* LED_SMD:* LED_THT:*; Datasheet: ~; Description_: RGB LED, green/red/cathode/blue
pins: 1 GA, 2 RA, 3 K, 4 BA
text: R; G; B

## LED_KBGR
designator *  value LED_KBGR  Reference: D
RGB LED, cathode/blue/green/red; ki_keywords: LED RGB diode; ki_fp_filters: LED* LED_SMD:* LED_THT:*; Datasheet: ~; Description_: RGB LED, cathode/blue/green/red
pins: 1 K, 2 BA, 3 GA, 4 RA
text: R; G; B

## LED_KBRG
designator *  value LED_KBRG  Reference: D
RGB LED, cathode/blue/red/green; ki_keywords: LED RGB diode; ki_fp_filters: LED* LED_SMD:* LED_THT:*; Datasheet: ~; Description_: RGB LED, cathode/blue/red/green
pins: 1 K, 2 BA, 3 RA, 4 GA
text: R; G; B

## LED_KGBR
designator *  value LED_KGBR  Reference: D
RGB LED, cathode/green/blue/red; ki_keywords: LED RGB diode; ki_fp_filters: LED* LED_SMD:* LED_THT:*; Datasheet: ~; Description_: RGB LED, cathode/green/blue/red
pins: 1 K, 2 GA, 3 BA, 4 RA
text: R; G; B

## LED_KGRB
designator *  value LED_KGRB  Reference: D
RGB LED, cathode/green/red/blue; ki_keywords: LED RGB diode; ki_fp_filters: LED* LED_SMD:* LED_THT:*; Datasheet: ~; Description_: RGB LED, cathode/green/red/blue
pins: 1 K, 2 GA, 3 RA, 4 BA
text: R; G; B

## LED_KRBG
designator *  value LED_KRBG  Reference: D
RGB LED, cathode/red/blue/green; ki_keywords: LED RGB diode; ki_fp_filters: LED* LED_SMD:* LED_THT:*; Datasheet: ~; Description_: RGB LED, cathode/red/blue/green
pins: 1 K, 2 RA, 3 BA, 4 GA
text: R; G; B

## LED_KRGB
designator *  value LED_KRGB  Reference: D
RGB LED, cathode/red/green/blue; ki_keywords: LED RGB diode; ki_fp_filters: LED* LED_SMD:* LED_THT:*; Datasheet: ~; Description_: RGB LED, cathode/red/green/blue
pins: 1 K, 2 RA, 3 GA, 4 BA
text: R; G; B

## LED_Pad
designator *  value LED_Pad  Reference: D
Light emitting diode with pad; ki_keywords: LED diode pad; ki_fp_filters: LED* LED_SMD:* LED_THT:*; Datasheet: ~; Description_: Light emitting diode with pad
pins: 1 K, 2 A, 3 PAD

## LED_RABG
designator *  value LED_RABG  Reference: D
RGB LED, red/anode/blue/green; ki_keywords: LED RGB diode; ki_fp_filters: LED* LED_SMD:* LED_THT:*; Datasheet: ~; Description_: RGB LED, red/anode/blue/green
pins: 1 RK, 2 A, 3 BK, 4 GK
text: R; G; B

## LED_RAGB
designator *  value LED_RAGB  Reference: D
RGB LED, red/anode/green/blue; ki_keywords: LED RGB diode; ki_fp_filters: LED* LED_SMD:* LED_THT:*; Datasheet: ~; Description_: RGB LED, red/anode/green/blue
footprint LED_D5.0mm-4_RGB
footprint LED_D5.0mm-4_RGB_Staggered_Pins
footprint LED_D5.0mm-4_RGB_Wide_Pins
pins: 1 RK, 2 A, 3 GK, 4 BK
text: R; G; B

## LED_RBAG
designator *  value LED_RBAG  Reference: D
RGB LED, red/blue/anode/green; ki_keywords: LED RGB diode; ki_fp_filters: LED* LED_SMD:* LED_THT:*; Datasheet: ~; Description_: RGB LED, red/blue/anode/green
pins: 1 RK, 2 BK, 3 A, 4 GK
text: R; G; B

## LED_RBGA
designator *  value LED_RBGA  Reference: D
RGB LED, red/blue/green/anode; ki_keywords: LED RGB diode; ki_fp_filters: LED* LED_SMD:* LED_THT:*; Datasheet: ~; Description_: RGB LED, red/blue/green/anode
pins: 1 RK, 2 BK, 3 GK, 4 A
text: R; G; B

## LED_RBGK
designator *  value LED_RBGK  Reference: D
RGB LED, red/blue/green/cathode; ki_keywords: LED RGB diode; ki_fp_filters: LED* LED_SMD:* LED_THT:*; Datasheet: ~; Description_: RGB LED, red/blue/green/cathode
pins: 1 RA, 2 BA, 3 GA, 4 K
text: R; G; B

## LED_RBKG
designator *  value LED_RBKG  Reference: D
RGB LED, red/blue/cathode/green; ki_keywords: LED RGB diode; ki_fp_filters: LED* LED_SMD:* LED_THT:*; Datasheet: ~; Description_: RGB LED, red/blue/cathode/green
pins: 1 RA, 2 BA, 3 K, 4 GA
text: R; G; B

## LED_RGAB
designator *  value LED_RGAB  Reference: D
RGB LED, red/green/anode/blue; ki_keywords: LED RGB diode; ki_fp_filters: LED* LED_SMD:* LED_THT:*; Datasheet: ~; Description_: RGB LED, red/green/anode/blue
pins: 1 RK, 2 GK, 3 A, 4 BK
text: R; G; B

## LED_RGB
designator *  value LED_RGB  Reference: D
RGB LED, 6 pin package; ki_keywords: LED RGB diode; ki_fp_filters: LED* LED_SMD:* LED_THT:*; Datasheet: ~; Description_: RGB LED, 6 pin package
pins: 1 RK, 2 GK, 3 BK, 4 BA, 5 GA, 6 RA
text: R; G; B

## LED_RGB_EP
designator *  value LED_RGB_EP  Reference: D
RGB LED, 6 pin package with exposed pad; ki_keywords: LED RGB diode; ki_fp_filters: LED* LED_SMD:* LED_THT:*; Datasheet: ~; Description_: RGB LED, 6 pin package with exposed pad
pins: 1 RK, 2 GK, 3 BK, 4 BA, 5 GA, 6 RA, 7 PAD
text: R; G; B

## LED_RGBA
designator *  value LED_RGBA  Reference: D
RGB LED, red/green/blue/anode; ki_keywords: LED RGB diode; ki_fp_filters: LED* LED_SMD:* LED_THT:*; Datasheet: ~; Description_: RGB LED, red/green/blue/anode
pins: 1 RK, 2 GK, 3 BK, 4 A
text: R; G; B

## LED_RGBK
designator *  value LED_RGBK  Reference: D
RGB LED, red/green/blue/cathode; ki_keywords: LED RGB diode; ki_fp_filters: LED* LED_SMD:* LED_THT:*; Datasheet: ~; Description_: RGB LED, red/green/blue/cathode
pins: 1 RA, 2 GA, 3 BA, 4 K
text: R; G; B

## LED_RGKB
designator *  value LED_RGKB  Reference: D
RGB LED, red/green/cathode/blue; ki_keywords: LED RGB diode; ki_fp_filters: LED* LED_SMD:* LED_THT:*; Datasheet: ~; Description_: RGB LED, red/green/cathode/blue
pins: 1 RA, 2 GA, 3 K, 4 BA
text: R; G; B

## LED_RKBG
designator *  value LED_RKBG  Reference: D
RGB LED, red/cathode/blue/green; ki_keywords: LED RGB diode; ki_fp_filters: LED* LED_SMD:* LED_THT:*; Datasheet: ~; Description_: RGB LED, red/cathode/blue/green
pins: 1 RA, 2 K, 3 BA, 4 GA
text: R; G; B

## LED_RKGB
designator *  value LED_RKGB  Reference: D
RGB LED, red/cathode/green/blue; ki_keywords: LED RGB diode; ki_fp_filters: LED* LED_SMD:* LED_THT:*; Datasheet: ~; Description_: RGB LED, red/cathode/green/blue
pins: 1 RA, 2 K, 3 GA, 4 BA
text: R; G; B

## LED_Series
designator *  value LED_Series  Reference: D
Several LEDs in series; ki_keywords: LED diode; ki_fp_filters: LED* LED_SMD:* LED_THT:*; Datasheet: ~; Description_: Several LEDs in series
pins: 1 K, 2 A

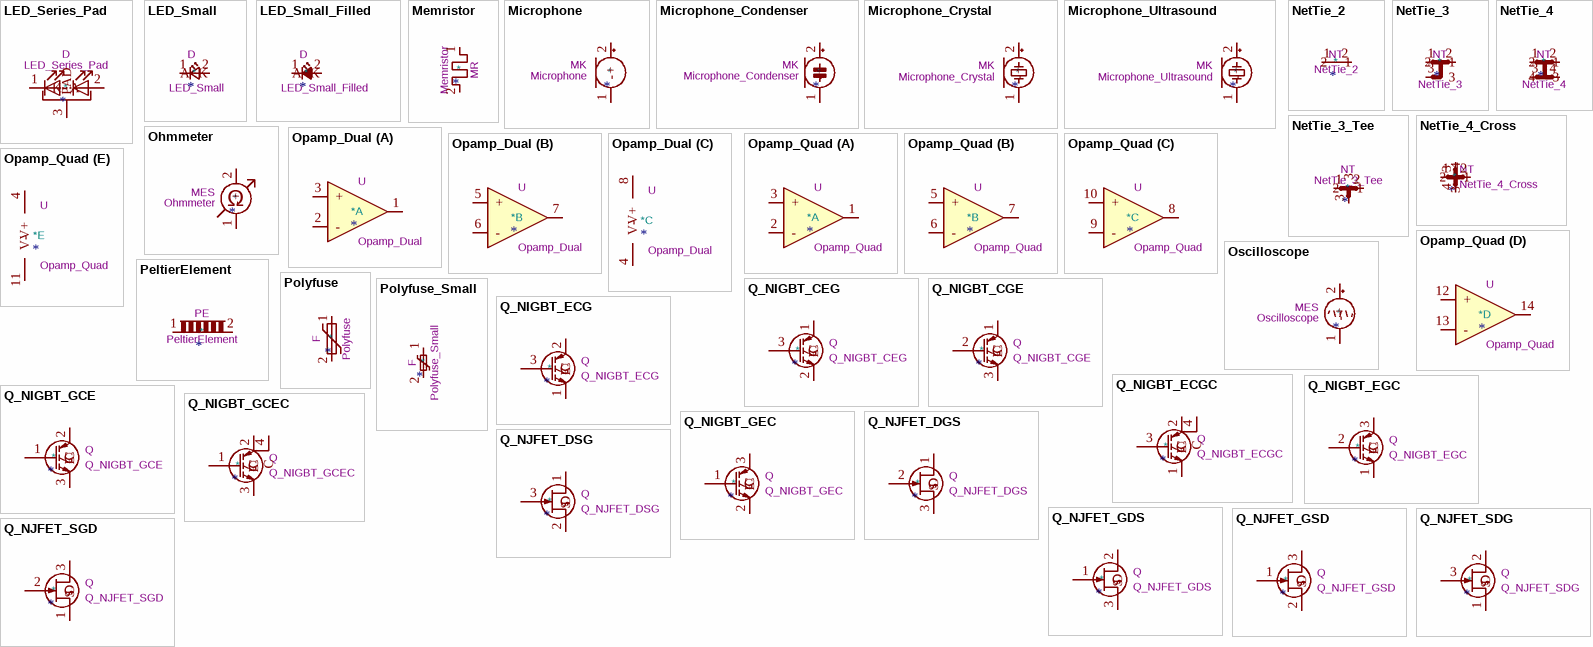
[diagram p9: symbols LED_Series_Pad to Q_NJFET_SGD]

## LED_Series_Pad
designator *  value LED_Series_Pad  Reference: D
Several LEDs in series with exposed pad; ki_keywords: LED diode pad; ki_fp_filters: LED* LED_SMD:* LED_THT:*; Datasheet: ~; Description_: Several LEDs in series with exposed pad
pins: 1 K, 2 A, 3 PAD

## LED_Small
designator *  value LED_Small  Reference: D
Light emitting diode, small symbol; Sim.Pin: 1=K 2=A; ki_keywords: LED diode light-emitting-diode; ki_fp_filters: LED* LED_SMD:* LED_THT:*; Datasheet: ~; Description_: Light emitting diode, small symbol
pins: 1 K, 2 A

## LED_Small_Filled
designator *  value LED_Small_Filled  Reference: D
Light emitting diode, small symbol, filled shape; Sim.Pins: 1=K 2=A; ki_keywords: LED diode light-emitting-diode; ki_fp_filters: LED* LED_SMD:* LED_THT:*; Datasheet: ~; Description_: Light emitting diode, small symbol, filled shape
pins: 1 K, 2 A

## Memristor
designator *  value Memristor  Reference: MR
Memristor; Datasheet: ~; Description_: Memristor; ki_keywords: memristor
pins: 1, 2

## Microphone
designator *  value Microphone  Reference: MK
Microphone; Datasheet: ~; Description_: Microphone; ki_keywords: microphone
pins: 1 -, 2 +

## Microphone_Condenser
designator *  value Microphone_Condenser  Reference: MK
Condenser microphone; ki_keywords: capacitance condenser microphone; Datasheet: ~; Description_: Condenser microphone
pins: 1 -, 2 +

## Microphone_Crystal
designator *  value Microphone_Crystal  Reference: MK
Crystal microphone; ki_keywords: microphone crystal; Datasheet: ~; Description_: Crystal microphone
pins: 1 -, 2 +

## Microphone_Ultrasound
designator *  value Microphone_Ultrasound  Reference: MK
Ultrasound receiver; ki_keywords: microphone ultrasound crystal; Datasheet: ~; Description_: Ultrasound receiver
pins: 1 -, 2 +

## NetTie_2
designator *  value NetTie_2  Reference: NT
Net tie, 2 pins; ki_keywords: net tie short; ki_fp_filters: Net*Tie*; Datasheet: ~; Description_: Net tie, 2 pins
pins: 1, 2

## NetTie_3
designator *  value NetTie_3  Reference: NT
Net tie, 3 pins; ki_keywords: net tie short; ki_fp_filters: Net*Tie*; Datasheet: ~; Description_: Net tie, 3 pins
pins: 1, 2, 3

## NetTie_3_Tee
designator *  value NetTie_3_Tee  Reference: NT
Net tie, 3 pins, tee; ki_keywords: net tie short; ki_fp_filters: Net*Tie*; Datasheet: ~; Description_: Net tie, 3 pins, tee
pins: 1, 2, 3

## NetTie_4
designator *  value NetTie_4  Reference: NT
Net tie, 4 pins; ki_keywords: net tie short; ki_fp_filters: Net*Tie*; Datasheet: ~; Description_: Net tie, 4 pins
pins: 1, 2, 3, 4

## NetTie_4_Cross
designator *  value NetTie_4_Cross  Reference: NT
Net tie, 4 pins, cross; ki_keywords: net tie short; ki_fp_filters: Net*Tie*; Datasheet: ~; Description_: Net tie, 4 pins, cross
pins: 1, 2, 3, 4

## Ohmmeter
designator *  value Ohmmeter  Reference: MES
Ohmmeter; ki_keywords: ohmmeter resistance; Datasheet: ~; Description_: Ohmmeter
pins: 1 -, 2 +
text: Ω

## Opamp_Dual
designator *  value Opamp_Dual  Reference: U
Dual operational amplifier; Sim.Library: ${KICAD9_SYMBOL_DIR}/Simulation_SPICE.sp; Sim.Name: kicad_builtin_opamp_dual; Sim.Device: SUBCKT; Sim.Pins: 1=out1 2=in1- 3=in1+ 4=vee 5=in2+ 6=in2- 7=out2 8=vcc; ki_keywords: dual opamp; ki_fp_filters: SOIC*3.9x4.9mm*P1.27mm* DIP*W7.62mm* MSOP*3x3mm*P0.65mm* SSOP*2.95x2.8mm*P0.65mm* TSSOP*3x3mm*P0.65mm* VSSOP*P0.5mm* TO?99*; Datasheet: ~; Description_: Dual operational amplifier
part A pins: 1, 2 -, 3 +
part B pins: 5 +, 6 -, 7
part C pins: 4 V-, 8 V+

## Opamp_Quad
designator *  value Opamp_Quad  Reference: U
Quad operational amplifier; Sim.Library: ${KICAD9_SYMBOL_DIR}/Simulation_SPICE.sp; Sim.Name: kicad_builtin_opamp_quad; Sim.Device: SUBCKT; Sim.Pins: 1=out1 2=in1- 3=in1+ 4=vcc 5=in2+ 6=in2- 7=out2 8=out3 9=in3- 10=in3+ 11=vee 12=in4+ 13=in4- 14=out4; ki_keywords: quad opamp; ki_fp_filters: SOIC*3.9x8.7mm*P1.27mm* DIP*W7.62mm* TSSOP*4.4x5mm*P0.65mm* SSOP*5.3x6.2mm*P0.65mm*; Datasheet: ~; Description_: Quad operational amplifier
part A pins: 1, 2 -, 3 +
part B pins: 5 +, 6 -, 7
part C pins: 8, 9 -, 10 +
part D pins: 12 +, 13 -, 14
part E pins: 4 V+, 11 V-

## Oscilloscope
designator *  value Oscilloscope  Reference: MES
Oscilloscope; Datasheet: ~; Description_: Oscilloscope; ki_keywords: oscilloscope
pins: 1 -, 2 +

## PeltierElement
designator *  value PeltierElement  Reference: PE
Peltier element, thermoelectric cooler; ki_keywords: Peltier TEC; Datasheet: ~; Description_: Peltier element, thermoelectric cooler
pins: 1, 2

## Polyfuse
designator *  value Polyfuse  Reference: F
Resettable fuse, polymeric positive temperature coefficient; ki_keywords: resettable fuse PTC PPTC polyfuse polyswitch; ki_fp_filters: *polyfuse* *PTC*; Datasheet: ~; Description_: Resettable fuse, polymeric positive temperature coefficient
pins: 1, 2

## Polyfuse_Small
designator *  value Polyfuse_Small  Reference: F
Resettable fuse, polymeric positive temperature coefficient, small symbol; ki_keywords: resettable fuse PTC PPTC polyfuse polyswitch; ki_fp_filters: *polyfuse* *PTC*; Datasheet: ~; Description_: Resettable fuse, polymeric positive temperature coefficient, small symbol
pins: 1, 2

## Q_NIGBT_CEG
designator *  value Q_NIGBT_CEG  Reference: Q
N-IGBT transistor, collector/emitter/gate; ki_keywords: transistor IGBT N-IGBT; Datasheet: ~; Description_: N-IGBT transistor, collector/emitter/gate
pins: 1 C, 2 E, 3 G

## Q_NIGBT_CGE
designator *  value Q_NIGBT_CGE  Reference: Q
N-IGBT transistor, collector/gate/emitter; ki_keywords: transistor IGBT N-IGBT; Datasheet: ~; Description_: N-IGBT transistor, collector/gate/emitter
pins: 1 C, 2 G, 3 E

## Q_NIGBT_ECG
designator *  value Q_NIGBT_ECG  Reference: Q
N-IGBT transistor, emitter/collector/gate; ki_keywords: transistor IGBT N-IGBT; Datasheet: ~; Description_: N-IGBT transistor, emitter/collector/gate
pins: 1 E, 2 C, 3 G

## Q_NIGBT_ECGC
designator *  value Q_NIGBT_ECGC  Reference: Q
N-IGBT transistor, emitter/collector/gate, collector connected to mounting plane; ki_keywords: transistor IGBT N-IGBT; Datasheet: ~; Description_: N-IGBT transistor, emitter/collector/gate, collector connected to mounting plane
pins: 1 E, 2 C, 3 G, 4 C

## Q_NIGBT_EGC
designator *  value Q_NIGBT_EGC  Reference: Q
N-IGBT transistor, emitter/gate/collector; ki_keywords: transistor IGBT N-IGBT; Datasheet: ~; Description_: N-IGBT transistor, emitter/gate/collector
pins: 1 E, 2 G, 3 C

## Q_NIGBT_GCE
designator *  value Q_NIGBT_GCE  Reference: Q
N-IGBT transistor, gate/collector/emitter; ki_keywords: transistor IGBT N-IGBT; Datasheet: ~; Description_: N-IGBT transistor, gate/collector/emitter
pins: 1 G, 2 C, 3 E

## Q_NIGBT_GCEC
designator *  value Q_NIGBT_GCEC  Reference: Q
N-IGBT transistor, gate/collector/emitter, collector connected to mounting plane; ki_keywords: transistor IGBT N-IGBT; Datasheet: ~; Description_: N-IGBT transistor, gate/collector/emitter, collector connected to mounting plane
pins: 1 G, 2 C, 3 E, 4 C

## Q_NIGBT_GEC
designator *  value Q_NIGBT_GEC  Reference: Q
N-IGBT transistor, gate/emitter/collector; ki_keywords: transistor IGBT N-IGBT; Datasheet: ~; Description_: N-IGBT transistor, gate/emitter/collector
pins: 1 G, 2 E, 3 C

## Q_NJFET_DGS
designator *  value Q_NJFET_DGS  Reference: Q
N-JFET transistor, drain/gate/source; ki_keywords: transistor NJFET N-JFET; Datasheet: ~; Description_: N-JFET transistor, drain/gate/source
pins: 1 D, 2 G, 3 S

## Q_NJFET_DSG
designator *  value Q_NJFET_DSG  Reference: Q
N-JFET transistor, drain/source/gate; ki_keywords: transistor NJFET N-JFET; Datasheet: ~; Description_: N-JFET transistor, drain/source/gate
pins: 1 D, 2 S, 3 G

## Q_NJFET_GDS
designator *  value Q_NJFET_GDS  Reference: Q
N-JFET transistor, gate/drain/source; ki_keywords: transistor NJFET N-JFET; Datasheet: ~; Description_: N-JFET transistor, gate/drain/source
pins: 1 G, 2 D, 3 S

## Q_NJFET_GSD
designator *  value Q_NJFET_GSD  Reference: Q
N-JFET transistor, gate/source/drain; ki_keywords: transistor NJFET N-JFET; Datasheet: ~; Description_: N-JFET transistor, gate/source/drain
pins: 1 G, 2 S, 3 D

## Q_NJFET_SDG
designator *  value Q_NJFET_SDG  Reference: Q
N-JFET transistor, source/drain/gate; ki_keywords: transistor NJFET N-JFET; Datasheet: ~; Description_: N-JFET transistor, source/drain/gate
pins: 1 S, 2 D, 3 G

## Q_NJFET_SGD
designator *  value Q_NJFET_SGD  Reference: Q
N-JFET transistor, source/gate/drain; ki_keywords: transistor NJFET N-JFET; Datasheet: ~; Description_: N-JFET transistor, source/gate/drain
pins: 1 S, 2 G, 3 D

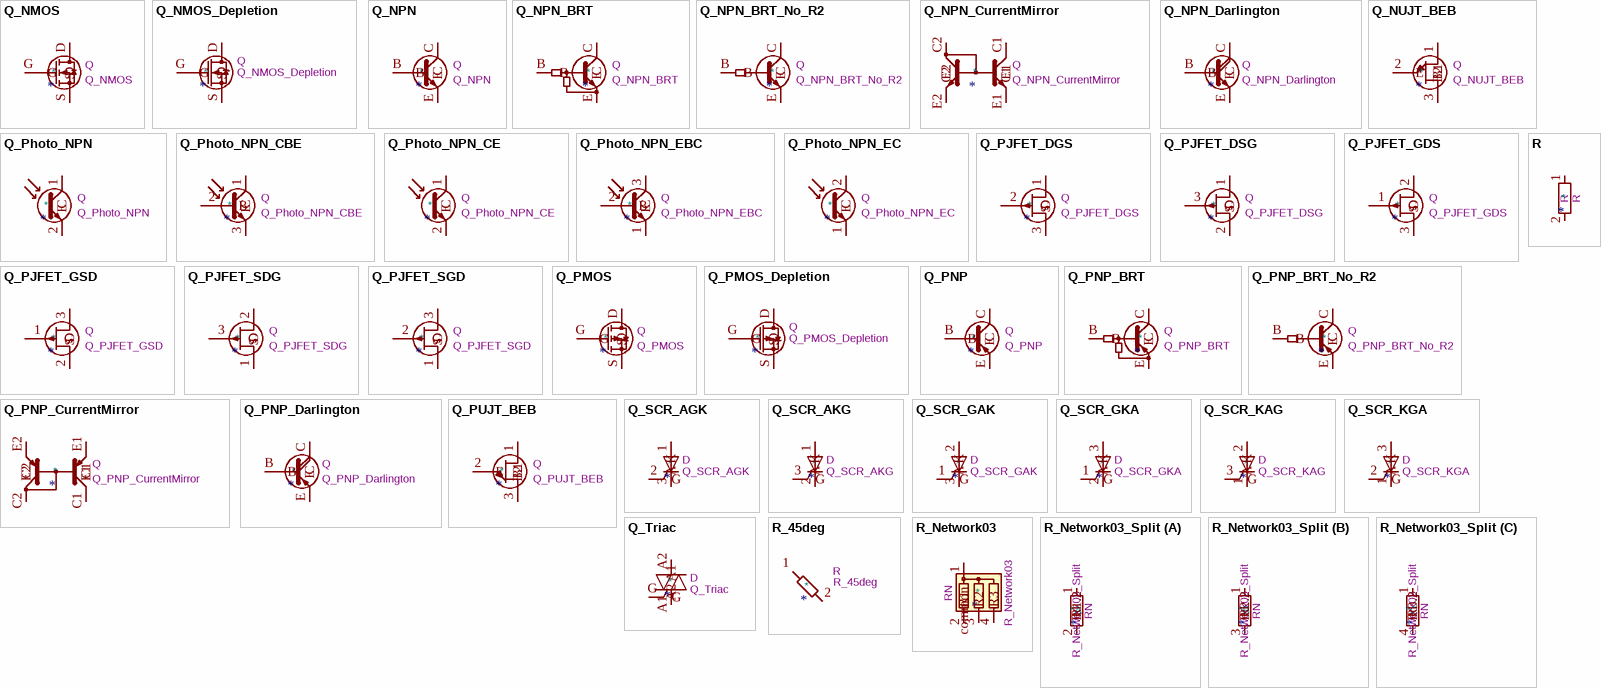
[diagram p10: symbols Q_NMOS to R_Network03_Split]

## Q_NMOS
designator *  value Q_NMOS  Reference: Q
N-MOSFET transistor; ki_keywords: NMOS N-MOS; Datasheet: ~; Description_: N-MOSFET transistor
pins: D, G, S

## Q_NMOS_Depletion
designator *  value Q_NMOS_Depletion  Reference: Q
Depletion-mode N-channel MOSFET; ki_keywords: NMOS; Datasheet: ~; Description_: Depletion-mode N-channel MOSFET
pins: D, G, S

## Q_NPN
designator *  value Q_NPN  Reference: Q
NPN bipolar junction transistor; ki_keywords: BJT; Datasheet: ~; Description_: NPN bipolar junction transistor
pins: B, C, E

## Q_NPN_BRT
designator *  value Q_NPN_BRT  Reference: Q
NPN bias resistor bipolar junction transistor; ki_keywords: BJT; Datasheet: ~; Description_: NPN bias resistor bipolar junction transistor
pins: B, C, E

## Q_NPN_BRT_No_R2
designator *  value Q_NPN_BRT_No_R2  Reference: Q
NPN gate resistor bipolar junction transistor; ki_keywords: BJT; Datasheet: ~; Description_: NPN gate resistor bipolar junction transistor
pins: B, C, E

## Q_NPN_CurrentMirror
designator *  value Q_NPN_CurrentMirror  Reference: Q
NPN bipolar junction transistors, current mirror configuration; ki_keywords: BJT; Datasheet: ~; Description_: NPN bipolar junction transistors, current mirror configuration
pins: C1, C2, E1, E2

## Q_NPN_Darlington
designator *  value Q_NPN_Darlington  Reference: Q
NPN Darlington  bipolar junction transistor; ki_keywords: BJT; Datasheet: ~; Description_: NPN Darlington  bipolar junction transistor
pins: B, C, E

## Q_NUJT_BEB
designator *  value Q_NUJT_BEB  Reference: Q
N-Type unijunction transistor; ki_keywords: transistor UJT; Datasheet: ~; Description_: N-Type unijunction transistor
pins: 1 B2, 2 E, 3 B1

## Q_Photo_NPN
designator *  value Q_Photo_NPN  Reference: Q
NPN phototransistor, collector/emitter; ki_keywords: phototransistor NPN; Datasheet: ~; Description_: NPN phototransistor, collector/emitter
pins: 1 C, 2 E

## Q_Photo_NPN_CBE
designator *  value Q_Photo_NPN_CBE  Reference: Q
NPN phototransistor, collector/base/emitter; ki_keywords: phototransistor NPN; Datasheet: ~; Description_: NPN phototransistor, collector/base/emitter
pins: 1 C, 2 B, 3 E

## Q_Photo_NPN_CE
designator *  value Q_Photo_NPN_CE  Reference: Q
NPN phototransistor, collector/emitter; ki_keywords: phototransistor NPN; Datasheet: ~; Description_: NPN phototransistor, collector/emitter
pins: 1 C, 2 E

## Q_Photo_NPN_EBC
designator *  value Q_Photo_NPN_EBC  Reference: Q
NPN phototransistor, emitter/base/collector; ki_keywords: phototransistor NPN; Datasheet: ~; Description_: NPN phototransistor, emitter/base/collector
pins: 1 E, 2 B, 3 C

## Q_Photo_NPN_EC
designator *  value Q_Photo_NPN_EC  Reference: Q
NPN phototransistor, emitter/collector; ki_keywords: phototransistor NPN; Datasheet: ~; Description_: NPN phototransistor, emitter/collector
pins: 1 E, 2 C

## Q_PJFET_DGS
designator *  value Q_PJFET_DGS  Reference: Q
P-JFET transistor, drain/gate/source; ki_keywords: transistor PJFET P-JFET; Datasheet: ~; Description_: P-JFET transistor, drain/gate/source
pins: 1 D, 2 G, 3 S

## Q_PJFET_DSG
designator *  value Q_PJFET_DSG  Reference: Q
P-JFET transistor, drain/source/gate; ki_keywords: transistor PJFET P-JFET; Datasheet: ~; Description_: P-JFET transistor, drain/source/gate
pins: 1 D, 2 S, 3 G

## Q_PJFET_GDS
designator *  value Q_PJFET_GDS  Reference: Q
P-JFET transistor, gate/drain/source; ki_keywords: transistor PJFET P-JFET; Datasheet: ~; Description_: P-JFET transistor, gate/drain/source
pins: 1 G, 2 D, 3 S

## Q_PJFET_GSD
designator *  value Q_PJFET_GSD  Reference: Q
P-JFET transistor, gate/source/drain; ki_keywords: transistor PJFET P-JFET; Datasheet: ~; Description_: P-JFET transistor, gate/source/drain
pins: 1 G, 2 S, 3 D

## Q_PJFET_SDG
designator *  value Q_PJFET_SDG  Reference: Q
P-JFET transistor, source/drain/gate; ki_keywords: transistor PJFET P-JFET; Datasheet: ~; Description_: P-JFET transistor, source/drain/gate
pins: 1 S, 2 D, 3 G

## Q_PJFET_SGD
designator *  value Q_PJFET_SGD  Reference: Q
P-JFET transistor, source/gate/drain; ki_keywords: transistor PJFET P-JFET; Datasheet: ~; Description_: P-JFET transistor, source/gate/drain
pins: 1 S, 2 G, 3 D

## Q_PMOS
designator *  value Q_PMOS  Reference: Q
P-MOSFET transistor; ki_keywords: PMOS P-MOS; Datasheet: ~; Description_: P-MOSFET transistor
pins: D, G, S

## Q_PMOS_Depletion
designator *  value Q_PMOS_Depletion  Reference: Q
Depletion-mode P-channel MOSFET; ki_keywords: PMOS; Datasheet: ~; Description_: Depletion-mode P-channel MOSFET
pins: D, G, S

## Q_PNP
designator *  value Q_PNP  Reference: Q
PNP bipolar junction transistor; ki_keywords: BJT; Datasheet: ~; Description_: PNP bipolar junction transistor
pins: B, C, E

## Q_PNP_BRT
designator *  value Q_PNP_BRT  Reference: Q
PNP bias resistor bipolar junction transistor; ki_keywords: BJT; Datasheet: ~; Description_: PNP bias resistor bipolar junction transistor
pins: B, C, E

## Q_PNP_BRT_No_R2
designator *  value Q_PNP_BRT_No_R2  Reference: Q
PNP gate resistor bipolar junction transistor; ki_keywords: BJT; Datasheet: ~; Description_: PNP gate resistor bipolar junction transistor
pins: B, C, E

## Q_PNP_CurrentMirror
designator *  value Q_PNP_CurrentMirror  Reference: Q
Double PNP bipolar junction transistors, current mirror configuration; ki_keywords: BJT; Datasheet: ~; Description_: Double PNP bipolar junction transistors, current mirror configuration
pins: C1, C2, E1, E2

## Q_PNP_Darlington
designator *  value Q_PNP_Darlington  Reference: Q
PNP Darlington bipolar junction transistor; ki_keywords: BJT; Datasheet: ~; Description_: PNP Darlington bipolar junction transistor
pins: B, C, E